# EAGLE library part DRV8353SRTAR (library DRV8353SRTAR)
Triple Half Bridge Motor Driver 40-Pin WQFN EP T/R Source: Datasheet <https://www.ti.com/general/docs/suppproductinfo.tsp?distId=10&gotoUrl=http%3A%2F%2Fwww.ti.com%2Flit%2Fgpn%2Fdrv8353>
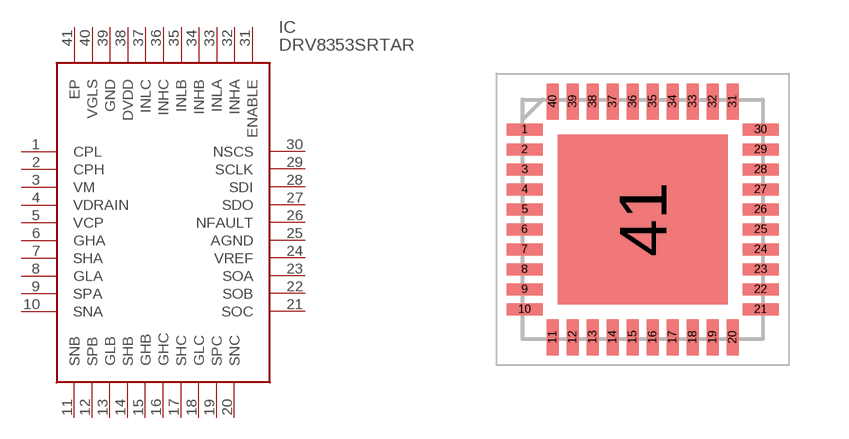
[diagram p0: symbol with the pads of QFN50P600X600X80-41N; footprint QFN50P600X600X80-41N]

Designator prefix IC

## DRV8353SRTAR (Description: Triple Half Bridge Motor Driver 40-Pin WQFN EP T/R; Height: 0.8mm; Manufacturer_Name: Texas Instruments; Manufacturer_Part_Number: DRV8353SRTAR; Mouser_Part_Number: 595-DRV8353SRTAR; Mouser_Price-Stock: https://www.mouser.co.uk/ProductDetail/Texas-Instruments/DRV8353SRTAR?qs=lc2O%252BfHJPVaoqU4BRWcLKw%3D%3D)  [QFN50P600X600X80-41N]
1  CPL
2  CPH
3  VM
4  VDRAIN
5  VCP
6  GHA
7  SHA
8  GLA
9  SPA
10  SNA
11  SNB
12  SPB
13  GLB
14  SHB
15  GHB
16  GHC
17  SHC
18  GLC
19  SPC
20  SNC
21  SOC
22  SOB
23  SOA
24  VREF
25  AGND
26  NFAULT
27  SDO
28  SDI
29  SCLK
30  NSCS
31  ENABLE
32  INHA
33  INLA
34  INHB
35  INLB
36  INHC
37  INLC
38  DVDD
39  GND
40  VGLS
41  EP

## Footprint QFN50P600X600X80-41N (pad centres in mm)
RTA(S-PQFP-N40)_3
smd 0.9 x 0.3: 1 -2.95,2.25; 2 -2.95,1.75; 3 -2.95,1.25; 4 -2.95,0.75; 5 -2.95,0.25; 6 -2.95,-0.25; 7 -2.95,-0.75; 8 -2.95,-1.25; 9 -2.95,-1.75; 10 -2.95,-2.25; 21 2.95,-2.25; 22 2.95,-1.75; 23 2.95,-1.25; 24 2.95,-0.75; 25 2.95,-0.25; 26 2.95,0.25; 27 2.95,0.75; 28 2.95,1.25; 29 2.95,1.75; 30 2.95,2.25
smd 0.3 x 0.9: 11 -2.25,-2.95; 12 -1.75,-2.95; 13 -1.25,-2.95; 14 -0.75,-2.95; 15 -0.25,-2.95; 16 0.25,-2.95; 17 0.75,-2.95; 18 1.25,-2.95; 19 1.75,-2.95; 20 2.25,-2.95; 31 2.25,2.95; 32 1.75,2.95; 33 1.25,2.95; 34 0.75,2.95; 35 0.25,2.95; 36 -0.25,2.95; 37 -0.75,2.95; 38 -1.25,2.95; 39 -1.75,2.95; 40 -2.25,2.95
smd 4.25 x 4.25: 41 0,0